# EAGLE library part MICROCHIP-MICROCONTROLLER-ATTINY85 (library Module_ICs)
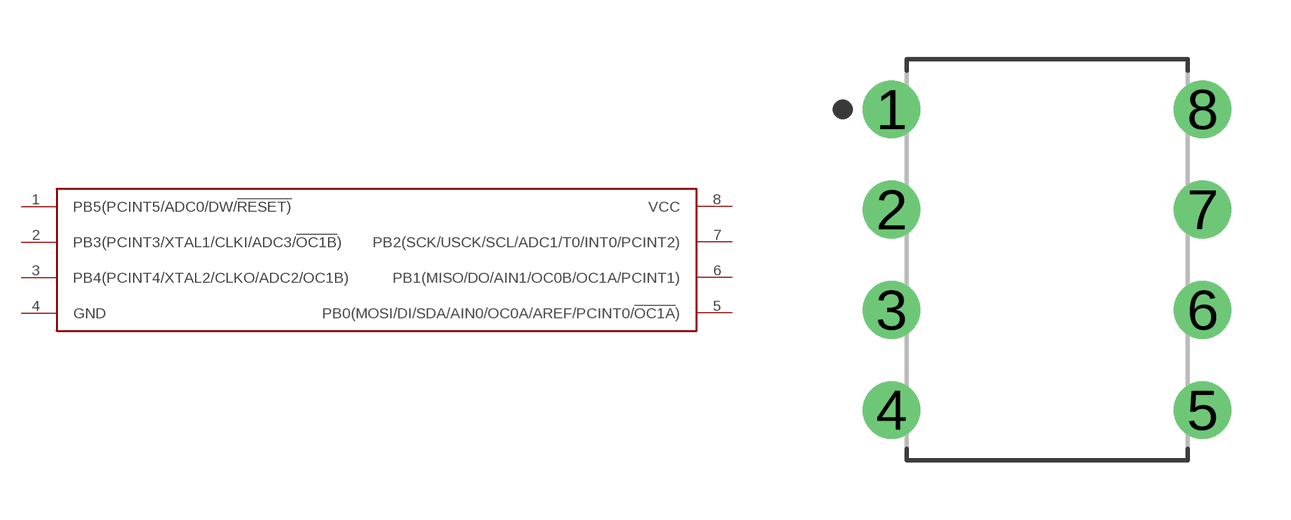
[diagram p66: symbol with the pads of DIP8; footprint DIP8]

Designator prefix U

## MICROCHIP-MICROCONTROLLER-ATTINY85  [DIP8]
1  PB5(PCINT5/ADC0/DW/!RESET)
2  PB3(PCINT3/XTAL1/CLKI/ADC3/!OC1B!)
3  PB4(PCINT4/XTAL2/CLKO/ADC2/OC1B)
4  GND
5  PB0(MOSI/DI/SDA/AIN0/OC0A/AREF/PCINT0/!OC1A!)
6  PB1(MISO/DO/AIN1/OC0B/OC1A/PCINT1)
7  PB2(SCK/USCK/SCL/ADC1/T0/INT0/PCINT2)
8  VCC

## Footprint DIP8 (pad centres in mm)
8-DIP, 2.54 mm (0.10 in) pitch, 7.87 mm (0.31 in) span, 9.59 X 6.60 X 5.33 mm body 8-pin DIP package with 2.54 mm (0.10 in) pitch, 7.87 mm (0.31 in) span with body size 9.59 X 6.60 X 5.33 mm
drill 0.862 pad 1.462: 1 -3.937,3.81; 2 -3.937,1.27; 3 -3.937,-1.27; 4 -3.937,-3.81; 5 3.937,-3.81; 6 3.937,-1.27; 7 3.937,1.27; 8 3.937,3.81